# Altium schematic symbol library IC Regulator.SchLib: 27 symbols
Pins are listed as number, name and electrical type; pins without a type are passive.

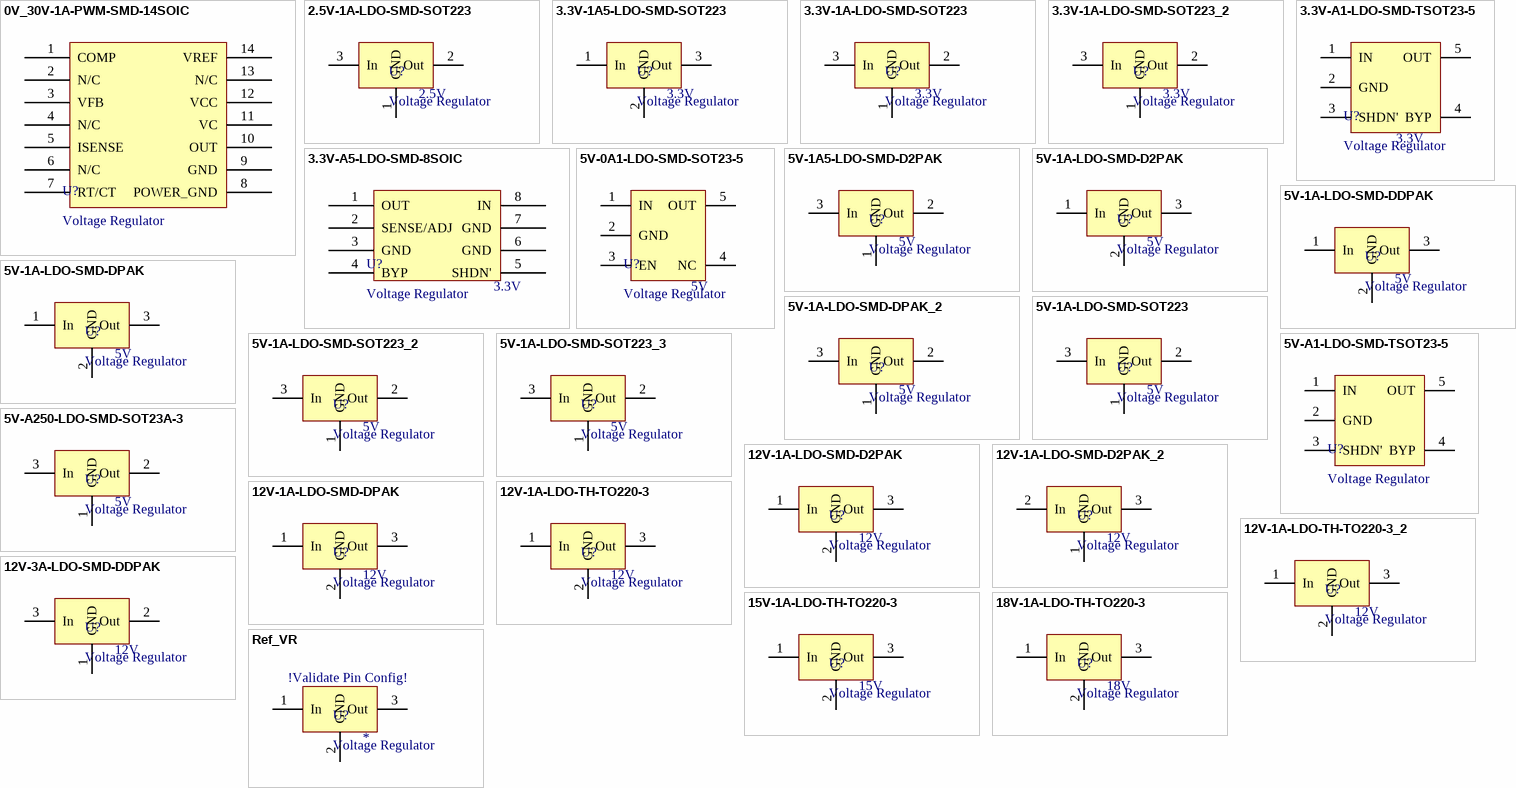
[diagram p0: symbols 0V_30V-1A-PWM-SMD-14SOIC to Ref_VR]

## 0V_30V-1A-PWM-SMD-14SOIC
designator U?, comment Voltage Regulator
Voltage Regulator, 0V-30V OutputVoltage, 1A MaxCurrent, PWM Type, 14SOIC Package; Manufacturer: Texas Instruments; ManufacturerReference: TL3842BDR; InventoryNumber: IC009; InputVoltageRating: 30V; Distributor: Digikey; DistributorReference: 296-29293-1-ND; Type: LDO; CurrentRating: 1A; Package: 14SOIC-3.9mmWidth; OutputVoltage: *
pins: 1 COMP, 2 N/C, 3 VFB, 4 N/C, 5 ISENSE, 6 N/C, 7 RT/CT, 8 POWER_GND, 9 GND, 10 OUT, 11 VC, 12 VCC, 13 N/C, 14 VREF

## 2.5V-1A-LDO-SMD-SOT223
designator U?, comment Voltage Regulator  OutputVoltage: 2.5V
Voltage Regulator, 2.5V OutputVoltage, 1A MaxCurrent, LDO Type, SOT223 Package; Manufacturer: Diodes Incorporated; ManufacturerReference: AP1117E25G-13; InventoryNumber: IC005; InputVoltageRating: 18V; Distributor: Digikey; DistributorReference: AP1117E25GDICT-ND; Type: LDO; CurrentRating: 1A; Package: SOT223/TO261-4
footprint SOT223/TO261-4 Diodes Incorporated (SOT223, 4-Leads, Body 6.50x7.00mm (avg), Pitch 2.30mm, IPC High Density)
pins: 1 GND, 2 Out, 3 In

## 3.3V-1A5-LDO-SMD-SOT223
designator U?, comment Voltage Regulator  OutputVoltage: 3.3V
Voltage Regulator, 3.3V OutputVoltage, 1.5A MaxCurrent, LDO Type, SOT223 Package; Manufacturer: Texas Instruments; ManufacturerReference: TL1963A-33DCYR; InventoryNumber: IC117; InputVoltageRating: 20V; Distributor: Digikey; DistributorReference: 296-24897-1-ND; Type: LDO; CurrentRating: 1.5A; Package: SOT223/TO261-4
footprint SOT223/TO261-4 Diodes Incorporated (SOT223, 4-Leads, Body 6.50x7.00mm (avg), Pitch 2.30mm, IPC High Density)
pins: 1 In, 2 GND, 3 Out

## 3.3V-1A-LDO-SMD-SOT223
designator U?, comment Voltage Regulator  OutputVoltage: 3.3V
Voltage Regulator, 3.3V OutputVoltage, 1A MaxCurrent, LDO Type, SOT223 Package; Manufacturer: Diodes Incorporated; ManufacturerReference: AP1117E33G-13; InventoryNumber: IC013; InputVoltageRating: 18V; Distributor: Digikey; DistributorReference: AP1117E33GDICT-ND; Type: LDO; CurrentRating: 1A; Package: SOT223/TO261-4
footprint SOT223/TO261-4 Diodes Incorporated (SOT223, 4-Leads, Body 6.50x7.00mm (avg), Pitch 2.30mm, IPC High Density)
pins: 1 GND, 2 Out, 3 In

## 3.3V-1A-LDO-SMD-SOT223_2
designator U?, comment Voltage Regulator  OutputVoltage: 3.3V
Voltage Regulator, 3.3V OutputVoltage, 1A MaxCurrent, LDO Type, SOT223 Package; Manufacturer: Diodes Incorporated; ManufacturerReference: ZLDO1117G33TA; InventoryNumber: IC013; InputVoltageRating: 18V; Distributor: Digikey; DistributorReference: ZLDO1117G33DICT-ND; Type: LDO; CurrentRating: 1A; Package: SOT223/TO261-4
footprint SOT223/TO261-4 Diodes Incorporated (SOT223, 4-Leads, Body 6.50x7.00mm (avg), Pitch 2.30mm, IPC High Density)
pins: 1 GND, 2 Out, 3 In

## 3.3V-A1-LDO-SMD-TSOT23-5
designator U?, comment Voltage Regulator  OutputVoltage: 3.3V
Voltage Regulator, 3.3V OutputVoltage, 100mA MaxCurrent, LDO Type, TSOT23-5 Package; Manufacturer: Linear Technology/Analog Devices; ManufacturerReference: LT1761ES5-3.3#TRMPBF; InventoryNumber: IC026; InputVoltageRating: 20V; Distributor: Digikey; DistributorReference: LT1761ES5-3.3#TRMPBFCT-ND; Type: LDO; CurrentRating: 100mA; Package: TSOT23-5
footprint TSOT23-5-1.75mmWidth Linear Technology/Analog Devices (SOT23, 5-Leads, Body 2.90x2.80mm, Pitch 0.95mm, IPC High Density)
pins: 1 IN, 2 GND, 3 SHDN', 4 BYP, 5 OUT

## 3.3V-A5-LDO-SMD-8SOIC
designator U?, comment Voltage Regulator  OutputVoltage: 3.3V
Voltage Regulator, 3.3V OutputVoltage, 500mA MaxCurrent, LDO Type, 8SOIC Package; Manufacturer: Linear Technology/Analog Devices; ManufacturerReference: LT1763CS8-3.3#PBF; InventoryNumber: IC022; InputVoltageRating: 20V; Distributor: Digikey; DistributorReference: LT1763CS8-3.3#PBF-ND; Type: LDO; CurrentRating: 500mA; Package: 8SOIC-3.9mWidth
footprint 8SOIC-3.9mmWidth (SOIC, 8-Leads, Body 4.90x3.90mm, Pitch 1.27mm, IPC High Density)
pins: 1 OUT, 2 SENSE/ADJ, 3 GND, 4 BYP, 5 SHDN', 6 GND, 7 GND, 8 IN

## 5V-0A1-LDO-SMD-SOT23-5
designator U?, comment Voltage Regulator  OutputVoltage: 5V
Voltage Regulator,5V Output Voltage ,0.1A Current Rating, type LDO, SOT23-5 Package; Manufacturer: Texas Instruments; ManufacturerReference: TPS76150DBVR; InventoryNumber: IC010; InputVoltageRating: 16V; Distributor: Digikey; DistributorReference: 296-11012-1-ND; Type: LDO; CurrentRating: 0.1A; Package: SOT23-5-1.6mmWidth
footprint SOT23-5-1.6mmWidth Texas Instruments (SOT23, 5-Leads, Body 2.90x1.60mm, Pitch 0.95mm, IPC High Density)
pins: 1 IN, 2 GND, 3 EN, 4 NC, 5 OUT

## 5V-1A5-LDO-SMD-D2PAK
designator U?, comment Voltage Regulator  OutputVoltage: 5V
Voltage Regulator, 5V OutputVoltage, 1.5A MaxCurrent,Type LDO, D2PAK Package; ManufacturerReference: LD1086D2T50TR; Manufacturer: STMicroelectronics; InventoryNumber: IC007; InputVoltageRating: 30V; Distributor: Digikey; DistributorReference: 497-1225-1-ND; Type: LDO; CurrentRating: 1.5A; Package: D2PAK/TO263-3
footprint D2PAK/TO263-3-10.2mmWidth STMicroelectronics
pins: 1 GND, 2 Out, 3 In

## 5V-1A-LDO-SMD-D2PAK
designator U?, comment Voltage Regulator  OutputVoltage: 5V
Voltage Regulator, 5V OutputVoltage, 1A MaxCurrent, LDO Type, D2PAK Package; Manufacturer: ON Semiconductor; ManufacturerReference: MC7805ACD2TR4G; InventoryNumber: IC019; InputVoltageRating: 35V; Distributor: Digikey; DistributorReference: MC7805ACD2TR4GOSCT-ND; Type: LDO; CurrentRating: 1A; Package: D2PAK/T0263-3
footprint D2PAK/TO263-3-10.2mmWidth STMicroelectronics
pins: 1 In, 2 GND, 3 Out

## 5V-1A-LDO-SMD-DDPAK
designator U?, comment Voltage Regulator  OutputVoltage: 5V
Voltage Regulator, 5V OutputVoltage, 1A MaxCurrent, LDO Type, DDPAK Package; Manufacturer: Texas Instruments; ManufacturerReference: LM340S-5.0/NOPB; InventoryNumber: IC014; InputVoltageRating: 35V; Distributor: Digikey; DistributorReference: LM340S-5.0/NOPB-ND; Type: LDO; CurrentRating: 1A; Package: DDPAK/TO263-4-10.16mmWidth
footprint DDPAK/TO263-4-10.16mmWidth Texas Instruments
pins: 1 In, 2 GND, 3 Out

## 5V-1A-LDO-SMD-DPAK
designator U?, comment Voltage Regulator  OutputVoltage: 5V
Voltage Regulator, 5V OutputVoltage, 1A MaxCurrent, LDO Type, DPAK Package; Manufacturer: ON Semiconductor; ManufacturerReference: MC7805CDTRKG; InventoryNumber: IC016; InputVoltageRating: 35V; Distributor: Digikey; DistributorReference: MC7805CDTRKGOSCT-ND; Type: LDO; CurrentRating: 1A; Package: DPAK/TO252-3
footprint DPAK/TO252-3-5.46mmWidth(Tab) ON Semiconductor (DPAK/TO252-3-5.46mmWidth(Tab)-6.73mmWidth(Body) ON Semiconductor)
pins: 1 In, 2 GND, 3 Out

## 5V-1A-LDO-SMD-DPAK_2
designator U?, comment Voltage Regulator  OutputVoltage: 5V
Voltage Regulator, 5V OutputVoltage, 1A MaxCurrent, LDO Type, DPAK Package; Manufacturer: Diodes Incorporated; ManufacturerReference: AP1117D50G-13; InventoryNumber: IC011; InputVoltageRating: 18V; Distributor: Digikey; DistributorReference: AP1117D50GTR-ND; Type: LDO; CurrentRating: 1A; Package: DPAK/TO252-3
footprint DPAK/TO252-3-5.46mmWidth(Tab) ON Semiconductor (DPAK/TO252-3-5.46mmWidth(Tab)-6.73mmWidth(Body) ON Semiconductor)
pins: 1 GND, 2 Out, 3 In

## 5V-1A-LDO-SMD-SOT223
designator U?, comment Voltage Regulator  OutputVoltage: 5V
Voltage Regulator, 5V OutputVoltage, 1A MaxCurrent, LDO Type, SOT223 Package; Manufacturer: Diodes Incorporated; ManufacturerReference: AZ1117EH-5.0TRG1; InventoryNumber: IC012; InputVoltageRating: 13V; Distributor: Digikey; DistributorReference: AZ1117EH-5.0TRG1DICT-ND; Type: LDO; CurrentRating: 1A; Package: SOT223/TO261-4
footprint SOT223/TO261-4 Diodes Incorporated (SOT223, 4-Leads, Body 6.50x7.00mm (avg), Pitch 2.30mm, IPC High Density)
pins: 1 GND, 2 Out, 3 In

## 5V-1A-LDO-SMD-SOT223_2
designator U?, comment Voltage Regulator  OutputVoltage: 5V
Voltage Regulator, 5V OutputVoltage, 1A MaxCurrent, LDO Type, SOT223 Package; Manufacturer: Diodes Incorporated; ManufacturerReference: ZLDO1117G50TA; InventoryNumber: IC012; InputVoltageRating: 18V; Distributor: Digikey; DistributorReference: ZLDO1117G50DICT-ND; Type: LDO; CurrentRating: 1A; Package: SOT223/TO261-4
footprint SOT223/TO261-4 Diodes Incorporated (SOT223, 4-Leads, Body 6.50x7.00mm (avg), Pitch 2.30mm, IPC High Density)
pins: 1 GND, 2 Out, 3 In

## 5V-1A-LDO-SMD-SOT223_3
designator U?, comment Voltage Regulator  OutputVoltage: 5V
Voltage Regulator, 5V OutputVoltage, 1A MaxCurrent, LDO Type, SOT223 Package; Manufacturer: Diodes Incorporated; ManufacturerReference: AP1117E50G-13; InventoryNumber: IC012; InputVoltageRating: 18V; Distributor: Digikey; DistributorReference: AP1117E50GDICT-ND; Type: LDO; CurrentRating: 1A; Package: SOT223/TO261-4
footprint SOT223/TO261-4 Diodes Incorporated (SOT223, 4-Leads, Body 6.50x7.00mm (avg), Pitch 2.30mm, IPC High Density)
pins: 1 GND, 2 Out, 3 In

## 5V-A1-LDO-SMD-TSOT23-5
designator U?, comment Voltage Regulator
Voltage Regulator, 5V OutputVoltage, 100mA MaxCurrent, LDO Type, TSOT23-5 Package; Manufacturer: Linear Technology/Analog Devices; ManufacturerReference: LT1761ES5-5#TRMPBF; InventoryNumber: IC006; InputVoltageRating: 20V; Distributor: Digikey; DistributorReference: LT1761ES5-5#TRMPBFCT-ND; Type: LDO; CurrentRating: 100mA; Package: TSOT23-5
footprint TSOT23-5-1.75mmWidth Linear Technology/Analog Devices (SOT23, 5-Leads, Body 2.90x2.80mm, Pitch 0.95mm, IPC High Density)
pins: 1 IN, 2 GND, 3 SHDN', 4 BYP, 5 OUT

## 5V-A250-LDO-SMD-SOT23A-3
designator U?, comment Voltage Regulator  OutputVoltage: 5V
Voltage Regulator, 5V OutputVoltage, 250mA MaxCurrent, LDO Type, SOT23A-3 Package; Manufacturer: Microchip Technology; ManufacturerReference: MCP1703T-5002E/CB; InventoryNumber: IC020; InputVoltageRating: 16V; Distributor: Digikey; DistributorReference: MCP1703T-5002E/CBCT-ND; Type: LDO; CurrentRating: 250mA; Package: SOT23A-3
footprint SOT23A-3 Microchip Technology (SOT23, 3-Leads, Body 2.90x2.75mm, Pitch 0.95mm, IPC High Density)
pins: 1 GND, 2 Out, 3 In

## 12V-1A-LDO-SMD-D2PAK
designator U?, comment Voltage Regulator  OutputVoltage: 12V
Voltage Regulator, 12V OutputVoltage, 1A MaxCurrent, LDO Type, D2PAK Package; Manufacturer: ON Semiconductor; ManufacturerReference: MC7812CD2TR4G; InventoryNumber: IC021; InputVoltageRating: 35V; Distributor: Digikey; DistributorReference: MC7812CD2TR4GOSCT-ND; Type: LDO; CurrentRating: 1A; Package: D2PAK/TO263-3
footprint D2PAK/TO263-3-10.2mmWidth STMicroelectronics
pins: 1 In, 2 GND, 3 Out

## 12V-1A-LDO-SMD-D2PAK_2
designator U?, comment Voltage Regulator  OutputVoltage: 12V
Voltage Regulator, 12V OutputVoltage, 1A MaxCurrent, LDO Type, D2PAK Package; Manufacturer: ON Semiconductor; ManufacturerReference: MC7912CD2TG; InventoryNumber: IC008; InputVoltageRating: 35V; Distributor: Digikey; DistributorReference: MC7912CD2TGOS-ND; Type: LDO; CurrentRating: 1A; Package: D2PAK/TO263-3
footprint D2PAK/TO263-3-10.2mmWidth STMicroelectronics
pins: 1 GND, 2 In, 3 Out

## 12V-1A-LDO-SMD-DPAK
designator U?, comment Voltage Regulator  OutputVoltage: 12V
Voltage Regulator, 12V OutputVoltage, 1A MaxCurrent, LDO Type, DPAK Package; Manufacturer: ON Semiconductor; ManufacturerReference: MC7812CDTG; InventoryNumber: IC018; InputVoltageRating: 35V; Distributor: Digikey; DistributorReference: MC7812CDTGOS-ND; Type: LDO; CurrentRating: 1A; Package: DPAK/TO252-3
footprint DPAK/TO252-3-5.46mmWidth(Tab) ON Semiconductor (DPAK/TO252-3-5.46mmWidth(Tab)-6.73mmWidth(Body) ON Semiconductor)
pins: 1 In, 2 GND, 3 Out

## 12V-1A-LDO-TH-TO220-3
designator U?, comment Voltage Regulator  OutputVoltage: 12V
Voltage Regulator, 12V Output Voltage, 1A Current Rating, Type LDO, TO220-3 Package; Manufacturer: Texas Instruments; ManufacturerReference: LM340T-12/NOPB; InventoryNumber: IC025; InputVoltageRating: 35V; Distributor: Digikey; DistributorReference: LM340T-12/NOPB-ND; Type: LDO; CurrentRating: 1A; Package: TO220-3
footprint TO-220-3/TO-220AB/TO-220-3 Full Pack
pins: 1 In, 2 GND, 3 Out

## 12V-1A-LDO-TH-TO220-3_2
designator U?, comment Voltage Regulator  OutputVoltage: 12V
Voltage Regulator, 12V OutputVoltage, 1A MaxCurrent, LDO Type, TO220-3 Package; Manufacturer: ON Semiconductor; ManufacturerReference: LM7812ACT; InventoryNumber: IC017; InputVoltageRating: 35V; Distributor: Digikey; DistributorReference: LM7812ACT-ND; Type: LDO; CurrentRating: 1A; Package: TO220-3
footprint TO-220-3/TO-220AB/TO-220-3 Full Pack
pins: 1 In, 2 GND, 3 Out

## 12V-3A-LDO-SMD-DDPAK
designator U?, comment Voltage Regulator  OutputVoltage: 12V
Voltage Regulator, 12V OutputVoltage, 3A MaxCurrent, LDO Type, DDPAK Package; Manufacturer: Texas Instruments; ManufacturerReference: LM1085IS-12/NOPB; InventoryNumber: IC015; InputVoltageRating: 18V; Distributor: Digikey; DistributorReference: LM1085IS-12/NOPB-ND; Type: LDO; CurrentRating: 3A; Package: DDPAK/TO263-4
footprint DDPAK/TO263-4-10.16mmWidth Texas Instruments
pins: 1 GND, 2 Out, 3 In

## 15V-1A-LDO-TH-TO220-3
designator U?, comment Voltage Regulator  OutputVoltage: 15V
Voltage Regulator, 15V OutputVoltage, 1A MaxCurrent, LDO Type, TO220-3 Package; Manufacturer: ON Semiconductor; ManufacturerReference: LM7815ACT; InventoryNumber: IC023; InputVoltageRating: 35V; Distributor: Digikey; DistributorReference: LM7815ACT-ND; Type: LDO; CurrentRating: 1A; Package: TO220-3
footprint TO-220-3/TO-220AB/TO-220-3 Full Pack
pins: 1 In, 2 GND, 3 Out

## 18V-1A-LDO-TH-TO220-3
designator U?, comment Voltage Regulator  OutputVoltage: 18V
Voltage Regulator, 18V OutputVoltage, 1A MaxCurrent, LDO Type, TO220-3 Package; Manufacturer: ON Semiconductor; ManufacturerReference: LM7818ACT; InventoryNumber: IC024; InputVoltageRating: 35V; Distributor: Digikey; DistributorReference: LM7818ACT-ND; Type: LDO; CurrentRating: 1A; Package: TO220-3
footprint TO-220-3/TO-220AB/TO-220-3 Full Pack
pins: 1 In, 2 GND, 3 Out

## Ref_VR
designator U?, comment Voltage Regulator
Voltage Regulator, OutputVoltage, MaxCurrent, LDO Type, Package; Distributor: Digikey; DistributorReference: *; Manufacturer: *; ManufacturerReference: *; InventoryNumber: *; Type: LDO; CurrentRating: *; InputVoltageRating: *; Package: *; OutputVoltage: *
pins: 1 In, 2 GND, 3 Out
text: !Validate Pin Config!